# EAGLE library part SWITCH_SS22SDH2LC (library gc1_parts)
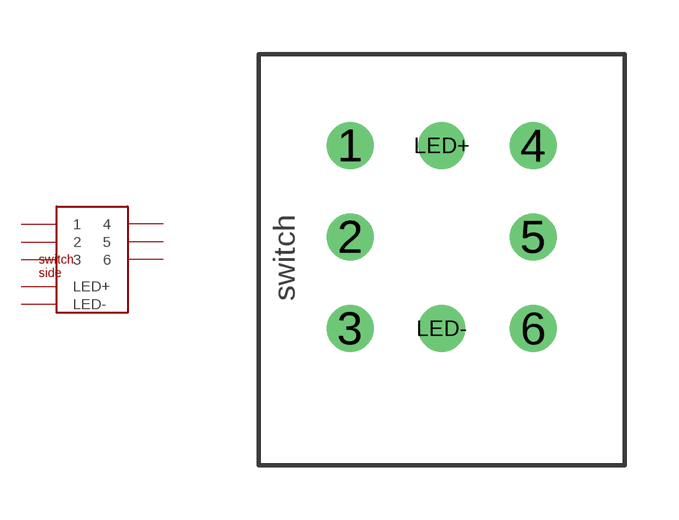
[diagram p2: symbol with the pads of SWITCH_SS22SDH2LC; footprint SWITCH_SS22SDH2LC]

Designator prefix -

## SWITCH_SS22SDH2LC  [SWITCH_SS22SDH2LC]
1  1
2  2
3  3
4  4
5  5
6  6
LED+  LED+
LED-  LED-

## Footprint SWITCH_SS22SDH2LC (pad centres in mm)
drill 0.8: 1 2.54,-2.54; 2 2.54,-5.08; 3 2.54,-7.62; 4 7.62,-2.54; 5 7.62,-5.08; 6 7.62,-7.62; LED+ 5.08,-2.54; LED- 5.08,-7.62